# EAGLE library part REF3440IDBVR (library REF3440IDBVR)
4.1V Low-Drift Low-Power Small-Footprint Series Voltage Reference 6-SOT-23 -40 to 125
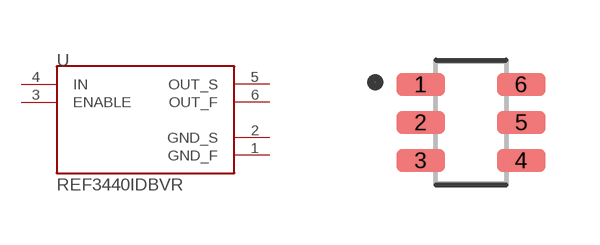
[diagram p0: symbol with the pads of SOT95P280X145-6N; footprint SOT95P280X145-6N]

Designator prefix U

## REF3440IDBVR (Availability: Unavailable; Description: Series Voltage Reference IC ±0.05% SOT-23-6; MF: Texas Instruments; MP: REF3440IDBVR; Package: SOT-23 Texas Instruments; Price: None)  [SOT95P280X145-6N]
1  GND_F  pwr
2  GND_S  pwr
3  ENABLE  in
4  IN  in
5  OUT_S  out
6  OUT_F  out

## Footprint SOT95P280X145-6N (pad centres in mm)
smd 1.21 x 0.58: 1 -1.255,0.95; 2 -1.255,0; 3 -1.255,-0.95; 4 1.255,-0.95; 5 1.255,0; 6 1.255,0.95